# EAGLE library part EXBA (library Panasonic-EXB-ERJ)
Chip Resistor Networks
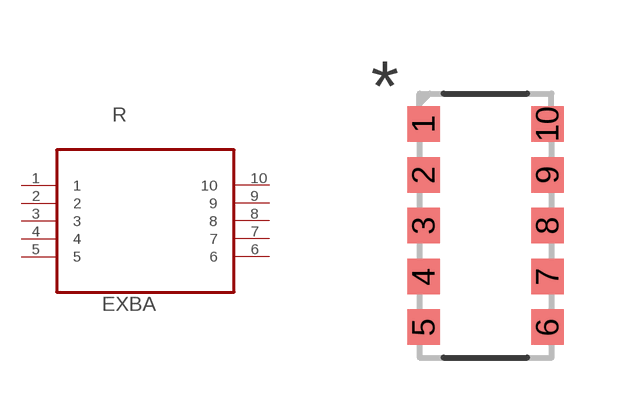
[diagram p6: symbol with the pads of RESCAV_EXBA-10N; footprint RESCAV_EXBA-10N]

Designator prefix R

## EXBA10P103J (MPN: EXBA10P103J; OC_FARNELL: 2283537; OC_NEWARK: 53W5031; PACKAGE: 2512; POWERRATING: 0.063 W/element; SUPPLIER: PANASONIC; TOLERANCE: ±5 %; VALUE: 10K), EXBA10P104J (MPN: EXBA10P104J; OC_FARNELL: 2283538; OC_NEWARK: 53W5032; PACKAGE: 2512; POWERRATING: 0.063 W/element; SUPPLIER: PANASONIC; TOLERANCE: ±5 %; VALUE: 100K), EXBA10P472J (MPN: EXBA10P472J; OC_FARNELL: 2283539; OC_NEWARK: 53W5033; PACKAGE: 2512; POWERRATING: 0.063 W/element; SUPPLIER: PANASONIC; TOLERANCE: ±5 %; VALUE: 4.7K)  [RESCAV_EXBA-10N]
1  1  pas
2  2  pas
3  3  pas
4  4  pas
5  5  pas
6  6  pas
7  7  pas
8  8  pas
9  9  pas
10  10  pas

## Footprint RESCAV_EXBA-10N (pad centres in mm)
smd 0.813 x 0.889: 1 -1.549,2.54; 2 -1.549,1.27; 3 -1.549,0; 4 -1.549,-1.27; 5 -1.549,-2.54; 6 1.549,-2.54; 7 1.549,-1.27; 8 1.549,0; 9 1.549,1.27; 10 1.549,2.54